# EAGLE library part 74*621 (library 74xx-eu)
Octal BUS TRANSCEIVER, open collector
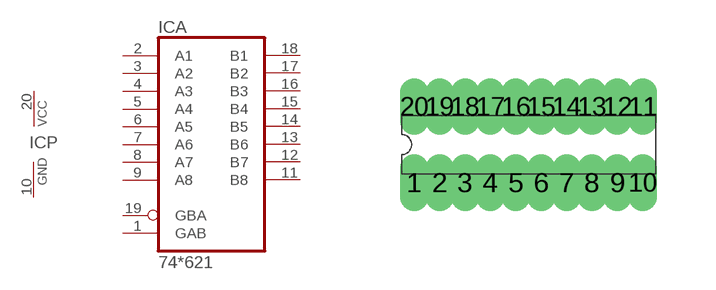
[diagram p262: symbol with the pads of DIL20; footprint DIL20]

Designator prefix IC; gates A=74621 P=PWRN

## 74621N  [DIL20]
1  A:GAB  in
2  A:A1  oc
3  A:A2  oc
4  A:A3  oc
5  A:A4  oc
6  A:A5  oc
7  A:A6  oc
8  A:A7  oc
9  A:A8  oc
10  P:GND  pwr
11  A:B8  oc
12  A:B7  oc
13  A:B6  oc
14  A:B5  oc
15  A:B4  oc
16  A:B3  oc
17  A:B2  oc
18  A:B1  oc
19  A:GBA  in
20  P:VCC  pwr

## Footprint DIL20 (pad centres in mm)
Dual In Line Package
drill 0.203 long: 1 -2.857,-0.953; 2 -2.223,-0.953; 3 -1.587,-0.953; 4 -0.953,-0.953; 5 -0.318,-0.953; 6 0.318,-0.953; 7 0.953,-0.953; 8 1.587,-0.953; 9 2.223,-0.953; 10 2.857,-0.953; 11 2.857,0.953; 12 2.223,0.953; 13 1.587,0.953; 14 0.953,0.953; 15 0.318,0.953; 16 -0.318,0.953; 17 -0.953,0.953; 18 -1.587,0.953; 19 -2.223,0.953; 20 -2.857,0.953